# EAGLE library part HDC1080 (library My_TI)
Low Power, High Accuracy Digital Humidity Sensor with Temperature Sensor
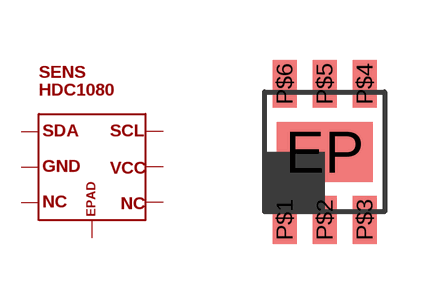
[diagram p8: symbol with the pads of PWSON6-3.15X3.15; footprint PWSON6-3.15X3.15]

Designator prefix SENS

## HDC1080  [PWSON6-3.15X3.15]
EP  P$7
P$1  P$1
P$2  P$2
P$3  P$3
P$4  P$4
P$5  P$5
P$6  P$6

## Footprint PWSON6-3.15X3.15 (pad centres in mm)
smd 2.4 x 1.5: EP 0,0
smd 0.6 x 1.2: P$1 -1,-1.7; P$2 0,-1.7; P$3 1,-1.7; P$4 1,1.7; P$5 0,1.7; P$6 -1,1.7